# EAGLE library part DF12D-3.0-60 (library con-hirose-DF12-20)
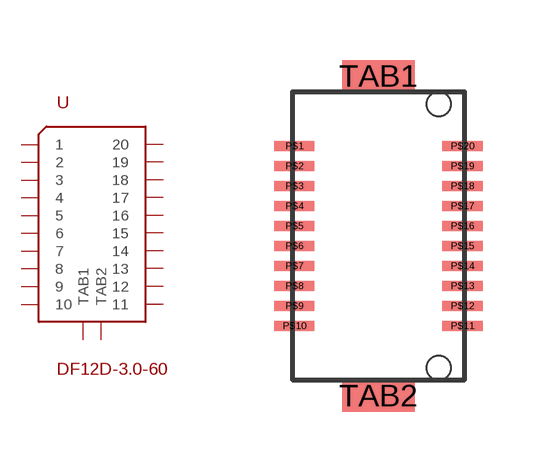
[diagram p0: symbol with the pads of DF12-3.0-60; footprint DF12-3.0-60]

Designator prefix -

## DF12D-3.0-60  [DF12-3.0-60]
P$1  1
P$2  2
P$3  3
P$4  4
P$5  5
P$6  6
P$7  7
P$8  8
P$9  9
P$10  10
P$11  11
P$12  12
P$13  13
P$14  14
P$15  15
P$16  16
P$17  17
P$18  18
P$19  19
P$20  20
TAB1  TAB1
TAB2  TAB2

## Footprint DF12-3.0-60 (pad centres in mm)
Hirose Electric Co 60 pin connector PN: DF12D(3.0)-60DP-0.5V
smd 1 x 0.25: P$1 -2.1,2.25; P$2 -2.1,1.75; P$3 -2.1,1.25; P$4 -2.1,0.75; P$5 -2.1,0.25; P$6 -2.1,-0.25; P$7 -2.1,-0.75; P$8 -2.1,-1.25; P$9 -2.1,-1.75; P$10 -2.1,-2.25; P$11 2.1,-2.25; P$12 2.1,-1.75; P$13 2.1,-1.25; P$14 2.1,-0.75; P$15 2.1,-0.25; P$16 2.1,0.25; P$17 2.1,0.75; P$18 2.1,1.25; P$19 2.1,1.75; P$20 2.1,2.25
smd 1.8 x 0.8: TAB1 0,4; TAB2 0,-4
hole 0.6 at 1.5,-3.3
hole 0.6 at 1.5,3.3